# Altium integrated library TI_Logic_Specialty_Logic.IntLib: 2504 symbols (part 62 of 81)
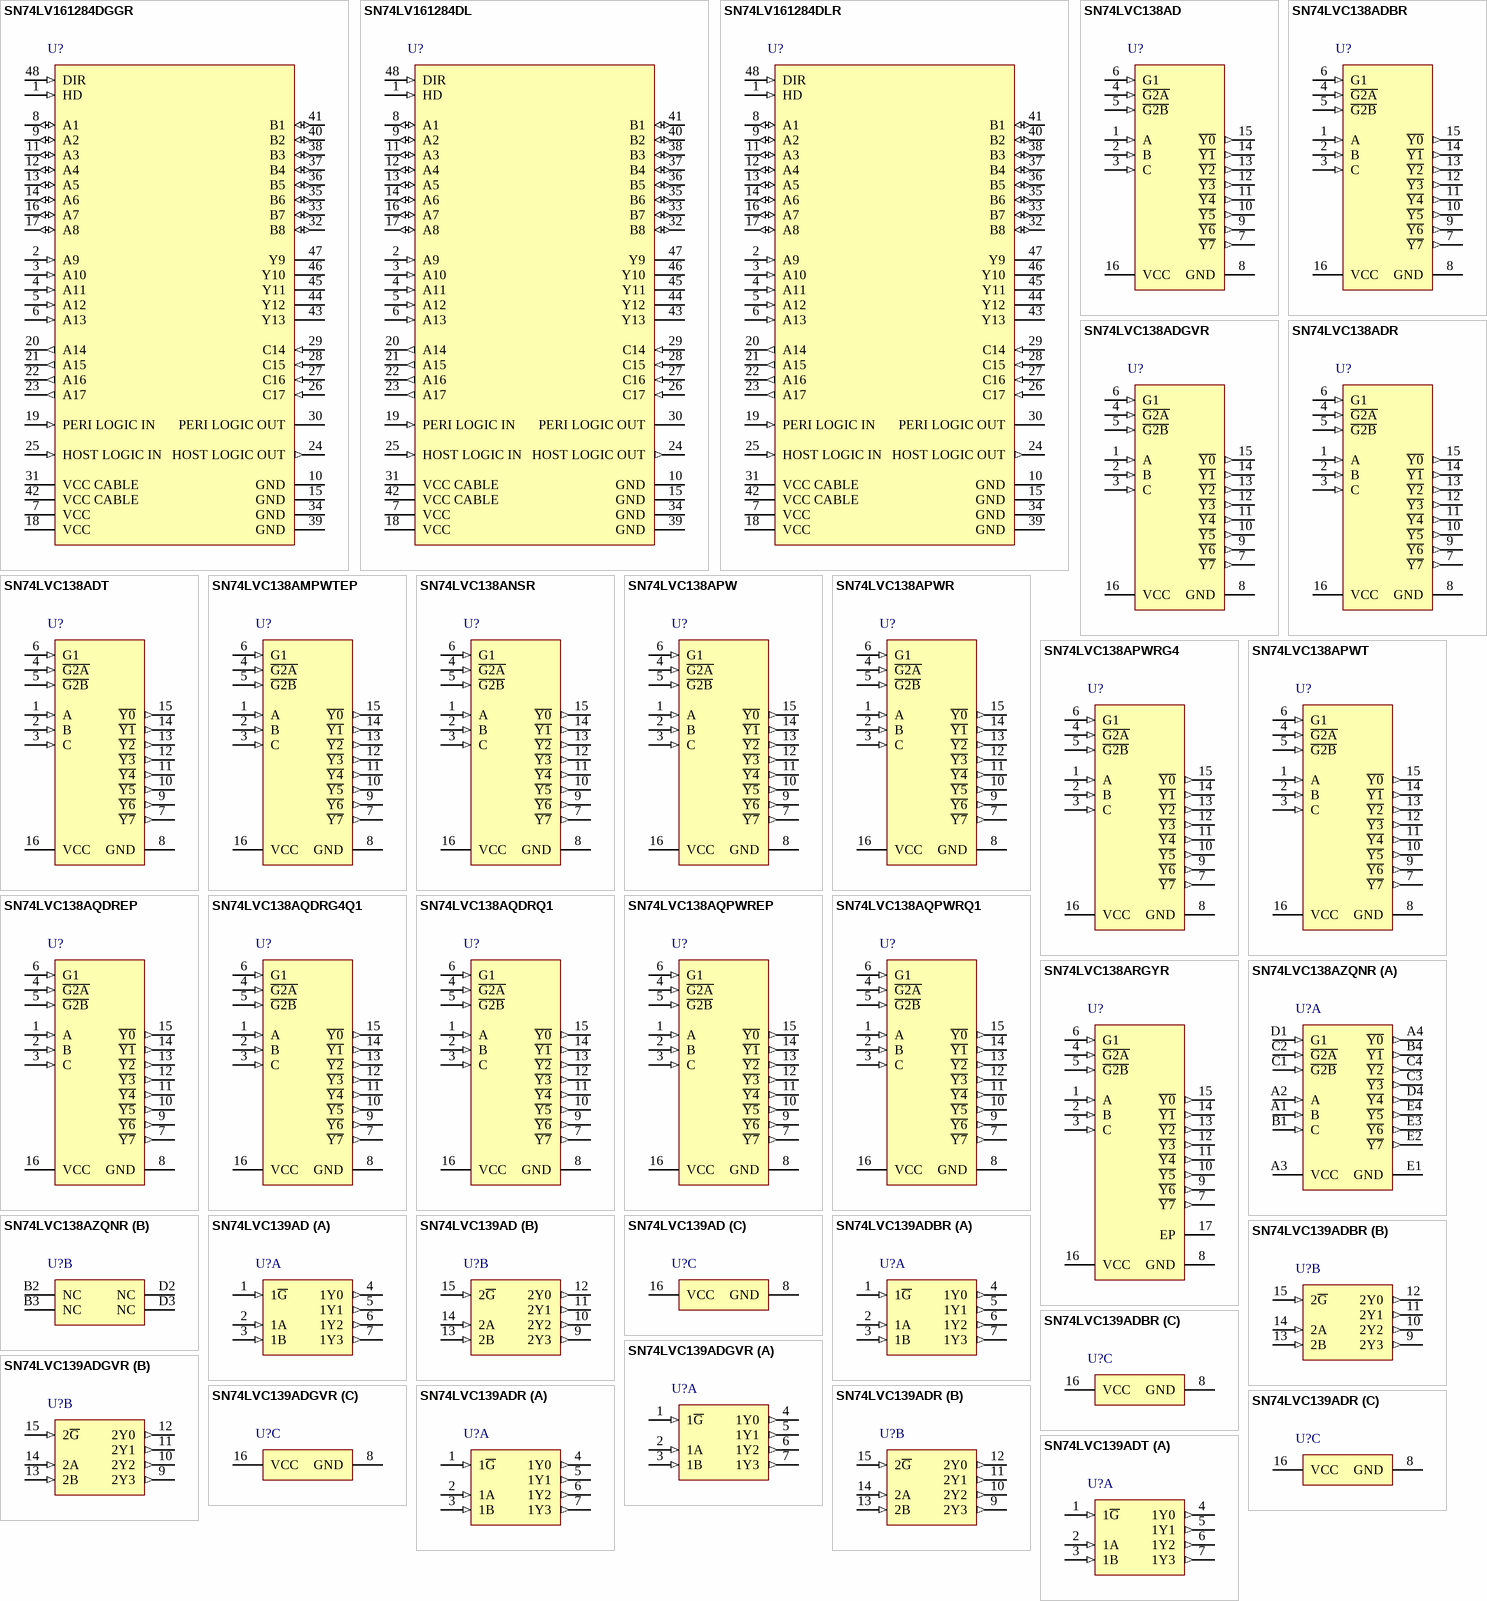
[diagram p165: symbols SN74LV161284DGGR to SN74LVC139ADT]

## SN74LVC138AD
designator U?
3-Line To 8-Line decoder/Demultiplexer, D0016A, TUBE; Generic Part Number: SN74LVC138A; Manufacturer: Texas Instruments; PartNumber: SN74LVC138AD; VCC(Min)(V): 1.65; VCC(Max)(V): 3.6; Output Type: CMOS; ICC @ Nom Voltage(Max)(mA): 0.01; Input Type: TLL/CMOS; Bits(#): 8; F @ Nom Voltage(Max)(Mhz): 100; Configuration: 3：8; Channels(#): 1; Rating: Catalog; Technology Family: LVC; Voltage(Nom)(V): 1.8,2.5,2.7,3.3; Schmitt Trigger: No; Output Drive (IOL/IOH)(Max)(mA): 24/-24; tpd @ Nom Voltage(Max)(ns): 22,9.9,7.9,6.7; DatasheetVersion: SCAS291V; PackageReference: D0016A; Supplier 1: Mouser; Supplier Part Number 1: 595-SN74LVC138AD; Supplier 2: Digi-Key; Supplier Part Number 2: 296-8459-5-ND; Function: Decoder/Demultiplexer; Operating Temperature Range(C): -40 to 85; Type: Standard; Code_JEDEC: MS-012 variation AC; ComponentLink1Description: Manufacturer URL; ComponentLink1URL: http://www.ti.com/; ComponentLink2Description: Datasheet; ComponentLink2URL: http://www.ti.com/lit/ds/symlink/sn74lvc138a.pdf; ComponentLink3Description: Package Specification; ComponentLink3URL: http://www.ti.com/lit/ml/mpds178g/mpds178g.pdf
footprint D0016A_N (SOIC, 16-Leads, Body 10x4mm, Pitch 1.27mm, IPC Medium Density)
footprint D0016A_M (SOIC, 16-Leads, Body 10x4mm, Pitch 1.27mm, IPC Low Density)
footprint D0016A_L (SOIC, 16-Leads, Body 10x4mm, Pitch 1.27mm, IPC High Density)
pins: 1 A (in), 2 B (in), 3 C (in), 4 ~{G2A} (in), 5 ~{G2B} (in), 6 G1 (in), 7 ~{Y7} (out), 8 GND (power), 9 ~{Y6} (out), 10 ~{Y5} (out), 11 ~{Y4} (out), 12 ~{Y3} (out), 13 ~{Y2} (out), 14 ~{Y1} (out), 15 ~{Y0} (out), 16 VCC (power)

## SN74LVC138ADBR
designator U?
3-Line To 8-Line decoder/Demultiplexer, DB0016A, LARGE T&R; Generic Part Number: SN74LVC138A; Manufacturer: Texas Instruments; PartNumber: SN74LVC138ADBR; VCC(Min)(V): 1.65; VCC(Max)(V): 3.6; Output Type: CMOS; ICC @ Nom Voltage(Max)(mA): 0.01; Input Type: TLL/CMOS; Bits(#): 8; F @ Nom Voltage(Max)(Mhz): 100; Configuration: 3：8; Channels(#): 1; Rating: Catalog; Technology Family: LVC; Voltage(Nom)(V): 1.8,2.5,2.7,3.3; Schmitt Trigger: No; Output Drive (IOL/IOH)(Max)(mA): 24/-24; tpd @ Nom Voltage(Max)(ns): 22,9.9,7.9,6.7; DatasheetVersion: SCAS291V; PackageReference: DB0016A; Supplier 1: Mouser; Supplier Part Number 1: 595-SN74LVC138ADBR; Supplier 2: Digi-Key; Supplier Part Number 2: 296-8460-2-ND; Supplier 3: Digi-Key; Supplier Part Number 3: 296-8460-1-ND; Supplier 4: Digi-Key; Supplier Part Number 4: 296-8460-6-ND; Function: Decoder/Demultiplexer; Operating Temperature Range(C): -40 to 85; Type: Standard; Code_JEDEC: MO-150; ComponentLink1Description: Manufacturer URL; ComponentLink1URL: http://www.ti.com/; ComponentLink2Description: Datasheet; ComponentLink2URL: http://www.ti.com/lit/ds/symlink/sn74lvc138a.pdf; ComponentLink3Description: Package Specification; ComponentLink3URL: http://www.ti.com/lit/ml/mpds507/mpds507.pdf
footprint DB0016A_N (SOP, 16-Leads, Body 5.6x6.5mm, Pitch 0.65mm, IPC Medium Density)
footprint DB0016A_M (SOP, 16-Leads, Body 5.6x6.5mm, Pitch 0.65mm, IPC Low Density)
footprint DB0016A_L (SOP, 16-Leads, Body 5.6x6.5mm, Pitch 0.65mm, IPC High Density)
pins: 1 A (in), 2 B (in), 3 C (in), 4 ~{G2A} (in), 5 ~{G2B} (in), 6 G1 (in), 7 ~{Y7} (out), 8 GND (power), 9 ~{Y6} (out), 10 ~{Y5} (out), 11 ~{Y4} (out), 12 ~{Y3} (out), 13 ~{Y2} (out), 14 ~{Y1} (out), 15 ~{Y0} (out), 16 VCC (power)

## SN74LVC138ADGVR
designator U?
3-Line To 8-Line decoder/Demultiplexer, DGV0016A, LARGE T&R; Generic Part Number: SN74LVC138A; Manufacturer: Texas Instruments; PartNumber: SN74LVC138ADGVR; VCC(Min)(V): 1.65; VCC(Max)(V): 3.6; Output Type: CMOS; ICC @ Nom Voltage(Max)(mA): 0.01; Input Type: TLL/CMOS; Bits(#): 8; F @ Nom Voltage(Max)(Mhz): 100; Configuration: 3：8; Channels(#): 1; Rating: Catalog; Technology Family: LVC; Voltage(Nom)(V): 1.8,2.5,2.7,3.3; Schmitt Trigger: No; Output Drive (IOL/IOH)(Max)(mA): 24/-24; tpd @ Nom Voltage(Max)(ns): 22,9.9,7.9,6.7; DatasheetVersion: SCAS291V; PackageReference: DGV0016A; Supplier 1: Mouser; Supplier Part Number 1: 595-SN74LVC138ADGVR; Supplier 2: Digi-Key; Supplier Part Number 2: 296-13235-2-ND; Supplier 3: Digi-Key; Supplier Part Number 3: 296-13235-1-ND; Supplier 4: Digi-Key; Supplier Part Number 4: 296-13235-6-ND; Function: Decoder/Demultiplexer; Operating Temperature Range(C): -40 to 85; Type: Standard; Code_JEDEC: MO-194; ComponentLink1Description: Manufacturer URL; ComponentLink1URL: http://www.ti.com/; ComponentLink2Description: Datasheet; ComponentLink2URL: http://www.ti.com/lit/ds/symlink/sn74lvc138a.pdf; ComponentLink3Description: Package Specification; ComponentLink3URL: http://www.ti.com/lit/ml/mpds006c/mpds006c.pdf
footprint DGV0016A_N (SOP, 16-Leads, Body 4.5x3.7mm, Pitch 0.4mm, IPC Medium Density)
footprint DGV0016A_M (SOP, 16-Leads, Body 4.5x3.7mm, Pitch 0.4mm, IPC Low Density)
footprint DGV0016A_L (SOP, 16-Leads, Body 4.5x3.7mm, Pitch 0.4mm, IPC High Density)
pins: 1 A (in), 2 B (in), 3 C (in), 4 ~{G2A} (in), 5 ~{G2B} (in), 6 G1 (in), 7 ~{Y7} (out), 8 GND (power), 9 ~{Y6} (out), 10 ~{Y5} (out), 11 ~{Y4} (out), 12 ~{Y3} (out), 13 ~{Y2} (out), 14 ~{Y1} (out), 15 ~{Y0} (out), 16 VCC (power)

## SN74LVC138ADR
designator U?
3-Line To 8-Line decoder/Demultiplexer, D0016A, LARGE T&R; Generic Part Number: SN74LVC138A; Manufacturer: Texas Instruments; PartNumber: SN74LVC138ADR; VCC(Min)(V): 1.65; VCC(Max)(V): 3.6; Output Type: CMOS; ICC @ Nom Voltage(Max)(mA): 0.01; Input Type: TLL/CMOS; Bits(#): 8; F @ Nom Voltage(Max)(Mhz): 100; Configuration: 3：8; Channels(#): 1; Rating: Catalog; Technology Family: LVC; Voltage(Nom)(V): 1.8,2.5,2.7,3.3; Schmitt Trigger: No; Output Drive (IOL/IOH)(Max)(mA): 24/-24; tpd @ Nom Voltage(Max)(ns): 22,9.9,7.9,6.7; DatasheetVersion: SCAS291V; PackageReference: D0016A; Supplier 1: Mouser; Supplier Part Number 1: 595-SN74LVC138ADR; Supplier 2: Digi-Key; Supplier Part Number 2: 296-14906-2-ND; Supplier 3: Digi-Key; Supplier Part Number 3: 296-14906-1-ND; Supplier 4: Digi-Key; Supplier Part Number 4: 296-14906-6-ND; Function: Decoder/Demultiplexer; Operating Temperature Range(C): -40 to 85; Type: Standard; Code_JEDEC: MS-012 variation AC; ComponentLink1Description: Manufacturer URL; ComponentLink1URL: http://www.ti.com/; ComponentLink2Description: Datasheet; ComponentLink2URL: http://www.ti.com/lit/ds/symlink/sn74lvc138a.pdf; ComponentLink3Description: Package Specification; ComponentLink3URL: http://www.ti.com/lit/ml/mpds178g/mpds178g.pdf
footprint D0016A_N (SOIC, 16-Leads, Body 10x4mm, Pitch 1.27mm, IPC Medium Density)
footprint D0016A_M (SOIC, 16-Leads, Body 10x4mm, Pitch 1.27mm, IPC Low Density)
footprint D0016A_L (SOIC, 16-Leads, Body 10x4mm, Pitch 1.27mm, IPC High Density)
pins: 1 A (in), 2 B (in), 3 C (in), 4 ~{G2A} (in), 5 ~{G2B} (in), 6 G1 (in), 7 ~{Y7} (out), 8 GND (power), 9 ~{Y6} (out), 10 ~{Y5} (out), 11 ~{Y4} (out), 12 ~{Y3} (out), 13 ~{Y2} (out), 14 ~{Y1} (out), 15 ~{Y0} (out), 16 VCC (power)

## SN74LVC138ADT
designator U?
3-Line To 8-Line decoder/Demultiplexer, D0016A, SMALL T&R; Generic Part Number: SN74LVC138A; Manufacturer: Texas Instruments; PartNumber: SN74LVC138ADT; VCC(Min)(V): 1.65; VCC(Max)(V): 3.6; Output Type: CMOS; ICC @ Nom Voltage(Max)(mA): 0.01; Input Type: TLL/CMOS; Bits(#): 8; F @ Nom Voltage(Max)(Mhz): 100; Configuration: 3：8; Channels(#): 1; Rating: Catalog; Technology Family: LVC; Voltage(Nom)(V): 1.8,2.5,2.7,3.3; Schmitt Trigger: No; Output Drive (IOL/IOH)(Max)(mA): 24/-24; tpd @ Nom Voltage(Max)(ns): 22,9.9,7.9,6.7; DatasheetVersion: SCAS291V; PackageReference: D0016A; Supplier 1: Mouser; Supplier Part Number 1: 595-SN74LVC138ADT; Supplier 2: Digi-Key; Supplier Part Number 2: 296-31902-2-ND; Supplier 3: Digi-Key; Supplier Part Number 3: 296-31902-1-ND; Supplier 4: Digi-Key; Supplier Part Number 4: 296-31902-6-ND; Function: Decoder/Demultiplexer; Operating Temperature Range(C): -40 to 85; Type: Standard; Code_JEDEC: MS-012 variation AC; ComponentLink1Description: Manufacturer URL; ComponentLink1URL: http://www.ti.com/; ComponentLink2Description: Datasheet; ComponentLink2URL: http://www.ti.com/lit/ds/symlink/sn74lvc138a.pdf; ComponentLink3Description: Package Specification; ComponentLink3URL: http://www.ti.com/lit/ml/mpds178g/mpds178g.pdf
footprint D0016A_N (SOIC, 16-Leads, Body 10x4mm, Pitch 1.27mm, IPC Medium Density)
footprint D0016A_M (SOIC, 16-Leads, Body 10x4mm, Pitch 1.27mm, IPC Low Density)
footprint D0016A_L (SOIC, 16-Leads, Body 10x4mm, Pitch 1.27mm, IPC High Density)
pins: 1 A (in), 2 B (in), 3 C (in), 4 ~{G2A} (in), 5 ~{G2B} (in), 6 G1 (in), 7 ~{Y7} (out), 8 GND (power), 9 ~{Y6} (out), 10 ~{Y5} (out), 11 ~{Y4} (out), 12 ~{Y3} (out), 13 ~{Y2} (out), 14 ~{Y1} (out), 15 ~{Y0} (out), 16 VCC (power)

## SN74LVC138AMPWTEP
designator U?
Enhanced Product 3-Line To 8-Line Decoder/Demultiplexer, PW0016A, SMALL T&R; Generic Part Number: SN74LVC138A-EP; Manufacturer: Texas Instruments; PartNumber: SN74LVC138AMPWTEP; VCC(Min)(V): 2; VCC(Max)(V): 3.6; ICC @ Nom Voltage(Max)(mA): 0.01; F @ Nom Voltage(Max)(Mhz): 100; Channels(#): 1; Rating: HiRel Enhanced Product; Technology Family: LVC; Voltage(Nom)(V): 2.7,3.3; Schmitt Trigger: No; Output Drive (IOL/IOH)(Max)(mA): 24/-24; tpd @ Nom Voltage(Max)(ns): 7.9,6.7; DatasheetVersion: SCAS734D; PackageReference: PW0016A; Supplier 1: Mouser; Supplier Part Number 1: 595-N74LVC138AMPWTEP; Supplier 2: Digi-Key; Supplier Part Number 2: 296-24670-2-ND; Supplier 3: Digi-Key; Supplier Part Number 3: 296-24670-1-ND; Supplier 4: Digi-Key; Supplier Part Number 4: 296-24670-6-ND; Operating Temperature Range(C): -40 to 125,-55 to 125; Type: Standard; Code_JEDEC: MO-153; ComponentLink1Description: Manufacturer URL; ComponentLink1URL: http://www.ti.com/; ComponentLink2Description: Datasheet; ComponentLink2URL: http://www.ti.com/lit/ds/symlink/sn74lvc138a-ep.pdf; ComponentLink3Description: Package Specification; ComponentLink3URL: http://www.ti.com/lit/ml/mpds361/mpds361.pdf
footprint PW0016A_N (SOP, 16-Leads, Body 5.1x4.5mm, Pitch 0.65mm, IPC Medium Density)
footprint PW0016A_M (SOP, 16-Leads, Body 5.1x4.5mm, Pitch 0.65mm, IPC Low Density)
footprint PW0016A_L (SOP, 16-Leads, Body 5.1x4.5mm, Pitch 0.65mm, IPC High Density)
pins: 1 A (in), 2 B (in), 3 C (in), 4 ~{G2A} (in), 5 ~{G2B} (in), 6 G1 (in), 7 ~{Y7} (out), 8 GND (power), 9 ~{Y6} (out), 10 ~{Y5} (out), 11 ~{Y4} (out), 12 ~{Y3} (out), 13 ~{Y2} (out), 14 ~{Y1} (out), 15 ~{Y0} (out), 16 VCC (power)

## SN74LVC138ANSR
designator U?
3-Line To 8-Line decoder/Demultiplexer, NS0016A, LARGE T&R; Generic Part Number: SN74LVC138A; Manufacturer: Texas Instruments; PartNumber: SN74LVC138ANSR; VCC(Min)(V): 1.65; VCC(Max)(V): 3.6; Output Type: CMOS; ICC @ Nom Voltage(Max)(mA): 0.01; Input Type: TLL/CMOS; Bits(#): 8; F @ Nom Voltage(Max)(Mhz): 100; Configuration: 3：8; Channels(#): 1; Rating: Catalog; Technology Family: LVC; Voltage(Nom)(V): 1.8,2.5,2.7,3.3; Schmitt Trigger: No; Output Drive (IOL/IOH)(Max)(mA): 24/-24; tpd @ Nom Voltage(Max)(ns): 22,9.9,7.9,6.7; DatasheetVersion: SCAS291V; PackageReference: NS0016A; Supplier 1: Mouser; Supplier Part Number 1: 595-SN74LVC138ANSR; Supplier 2: Digi-Key; Supplier Part Number 2: 296-31903-2-ND; Supplier 3: Digi-Key; Supplier Part Number 3: 296-31903-1-ND; Supplier 4: Digi-Key; Supplier Part Number 4: 296-31903-6-ND; Function: Decoder/Demultiplexer; Operating Temperature Range(C): -40 to 85; Type: Standard; ComponentLink1Description: Manufacturer URL; ComponentLink1URL: http://www.ti.com/; ComponentLink2Description: Datasheet; ComponentLink2URL: http://www.ti.com/lit/ds/symlink/sn74lvc138a.pdf; ComponentLink3Description: Package Specification; ComponentLink3URL: http://www.ti.com/lit/ml/msop002a/msop002a.pdf
footprint NS0016A_N (SOIC,16-Leads,Body 10.5x5.6mm,Pitch 1.27mm,IPC Medium Density)
footprint NS0016A_M (SOIC,16-Leads,Body 10.5x5.6mm,Pitch 1.27mm,IPC Low Density)
footprint NS0016A_L (SOIC,16-Leads,Body 10.5x5.6mm,Pitch 1.27mm,IPC High Density)
pins: 1 A (in), 2 B (in), 3 C (in), 4 ~{G2A} (in), 5 ~{G2B} (in), 6 G1 (in), 7 ~{Y7} (out), 8 GND (power), 9 ~{Y6} (out), 10 ~{Y5} (out), 11 ~{Y4} (out), 12 ~{Y3} (out), 13 ~{Y2} (out), 14 ~{Y1} (out), 15 ~{Y0} (out), 16 VCC (power)

## SN74LVC138APW
designator U?
3-Line To 8-Line decoder/Demultiplexer, PW0016A, TUBE; Generic Part Number: SN74LVC138A; Manufacturer: Texas Instruments; PartNumber: SN74LVC138APW; VCC(Min)(V): 1.65; VCC(Max)(V): 3.6; Output Type: CMOS; ICC @ Nom Voltage(Max)(mA): 0.01; Input Type: TLL/CMOS; Bits(#): 8; F @ Nom Voltage(Max)(Mhz): 100; Configuration: 3：8; Channels(#): 1; Rating: Catalog; Technology Family: LVC; Voltage(Nom)(V): 1.8,2.5,2.7,3.3; Schmitt Trigger: No; Output Drive (IOL/IOH)(Max)(mA): 24/-24; tpd @ Nom Voltage(Max)(ns): 22,9.9,7.9,6.7; DatasheetVersion: SCAS291V; PackageReference: PW0016A; Supplier 1: Mouser; Supplier Part Number 1: 595-SN74LVC138APW; Supplier 2: Digi-Key; Supplier Part Number 2: 296-26580-5-ND; Function: Decoder/Demultiplexer; Operating Temperature Range(C): -40 to 85; Type: Standard; Code_JEDEC: MO-153; ComponentLink1Description: Manufacturer URL; ComponentLink1URL: http://www.ti.com/; ComponentLink2Description: Datasheet; ComponentLink2URL: http://www.ti.com/lit/ds/symlink/sn74lvc138a.pdf; ComponentLink3Description: Package Specification; ComponentLink3URL: http://www.ti.com/lit/ml/mpds361/mpds361.pdf
footprint PW0016A_N (SOP, 16-Leads, Body 5.1x4.5mm, Pitch 0.65mm, IPC Medium Density)
footprint PW0016A_M (SOP, 16-Leads, Body 5.1x4.5mm, Pitch 0.65mm, IPC Low Density)
footprint PW0016A_L (SOP, 16-Leads, Body 5.1x4.5mm, Pitch 0.65mm, IPC High Density)
pins: 1 A (in), 2 B (in), 3 C (in), 4 ~{G2A} (in), 5 ~{G2B} (in), 6 G1 (in), 7 ~{Y7} (out), 8 GND (power), 9 ~{Y6} (out), 10 ~{Y5} (out), 11 ~{Y4} (out), 12 ~{Y3} (out), 13 ~{Y2} (out), 14 ~{Y1} (out), 15 ~{Y0} (out), 16 VCC (power)

## SN74LVC138APWR
designator U?
3-Line To 8-Line decoder/Demultiplexer, PW0016A, LARGE T&R; Generic Part Number: SN74LVC138A; Manufacturer: Texas Instruments; PartNumber: SN74LVC138APWR; VCC(Min)(V): 1.65; VCC(Max)(V): 3.6; Output Type: CMOS; ICC @ Nom Voltage(Max)(mA): 0.01; Input Type: TLL/CMOS; Bits(#): 8; F @ Nom Voltage(Max)(Mhz): 100; Configuration: 3：8; Channels(#): 1; Rating: Catalog; Technology Family: LVC; Voltage(Nom)(V): 1.8,2.5,2.7,3.3; Schmitt Trigger: No; Output Drive (IOL/IOH)(Max)(mA): 24/-24; tpd @ Nom Voltage(Max)(ns): 22,9.9,7.9,6.7; DatasheetVersion: SCAS291V; PackageReference: PW0016A; Supplier 1: Mouser; Supplier Part Number 1: 595-SN74LVC138APWR; Supplier 2: Digi-Key; Supplier Part Number 2: 296-1223-2-ND; Supplier 3: Digi-Key; Supplier Part Number 3: 296-1223-1-ND; Supplier 4: Digi-Key; Supplier Part Number 4: 296-1223-6-ND; Function: Decoder/Demultiplexer; Operating Temperature Range(C): -40 to 85; Type: Standard; Code_JEDEC: MO-153; ComponentLink1Description: Manufacturer URL; ComponentLink1URL: http://www.ti.com/; ComponentLink2Description: Datasheet; ComponentLink2URL: http://www.ti.com/lit/ds/symlink/sn74lvc138a.pdf; ComponentLink3Description: Package Specification; ComponentLink3URL: http://www.ti.com/lit/ml/mpds361/mpds361.pdf
footprint PW0016A_N (SOP, 16-Leads, Body 5.1x4.5mm, Pitch 0.65mm, IPC Medium Density)
footprint PW0016A_M (SOP, 16-Leads, Body 5.1x4.5mm, Pitch 0.65mm, IPC Low Density)
footprint PW0016A_L (SOP, 16-Leads, Body 5.1x4.5mm, Pitch 0.65mm, IPC High Density)
pins: 1 A (in), 2 B (in), 3 C (in), 4 ~{G2A} (in), 5 ~{G2B} (in), 6 G1 (in), 7 ~{Y7} (out), 8 GND (power), 9 ~{Y6} (out), 10 ~{Y5} (out), 11 ~{Y4} (out), 12 ~{Y3} (out), 13 ~{Y2} (out), 14 ~{Y1} (out), 15 ~{Y0} (out), 16 VCC (power)

## SN74LVC138APWRG4
designator U?
3-Line To 8-Line decoder/Demultiplexer, PW0016A, LARGE T&R; Generic Part Number: SN74LVC138A; Manufacturer: Texas Instruments; PartNumber: SN74LVC138APWRG4; VCC(Min)(V): 1.65; VCC(Max)(V): 3.6; Output Type: CMOS; ICC @ Nom Voltage(Max)(mA): 0.01; Input Type: TLL/CMOS; Bits(#): 8; F @ Nom Voltage(Max)(Mhz): 100; Configuration: 3：8; Channels(#): 1; Rating: Catalog; Technology Family: LVC; Voltage(Nom)(V): 1.8,2.5,2.7,3.3; Schmitt Trigger: No; Output Drive (IOL/IOH)(Max)(mA): 24/-24; tpd @ Nom Voltage(Max)(ns): 22,9.9,7.9,6.7; DatasheetVersion: SCAS291V; PackageReference: PW0016A; Supplier 1: Mouser; Supplier Part Number 1: 595-SN74LVC138APWRG4; Supplier 2: Digi-Key; Supplier Part Number 2: SN74LVC138APWRG4-ND; Function: Decoder/Demultiplexer; Operating Temperature Range(C): -40 to 85; Type: Standard; Code_JEDEC: MO-153; ComponentLink1Description: Manufacturer URL; ComponentLink1URL: http://www.ti.com/; ComponentLink2Description: Datasheet; ComponentLink2URL: http://www.ti.com/lit/ds/symlink/sn74lvc138a.pdf; ComponentLink3Description: Package Specification; ComponentLink3URL: http://www.ti.com/lit/ml/mpds361/mpds361.pdf
footprint PW0016A_N (SOP, 16-Leads, Body 5.1x4.5mm, Pitch 0.65mm, IPC Medium Density)
footprint PW0016A_M (SOP, 16-Leads, Body 5.1x4.5mm, Pitch 0.65mm, IPC Low Density)
footprint PW0016A_L (SOP, 16-Leads, Body 5.1x4.5mm, Pitch 0.65mm, IPC High Density)
pins: 1 A (in), 2 B (in), 3 C (in), 4 ~{G2A} (in), 5 ~{G2B} (in), 6 G1 (in), 7 ~{Y7} (out), 8 GND (power), 9 ~{Y6} (out), 10 ~{Y5} (out), 11 ~{Y4} (out), 12 ~{Y3} (out), 13 ~{Y2} (out), 14 ~{Y1} (out), 15 ~{Y0} (out), 16 VCC (power)

## SN74LVC138APWT
designator U?
3-Line To 8-Line decoder/Demultiplexer, PW0016A, SMALL T&R; Generic Part Number: SN74LVC138A; Manufacturer: Texas Instruments; PartNumber: SN74LVC138APWT; VCC(Min)(V): 1.65; VCC(Max)(V): 3.6; Output Type: CMOS; ICC @ Nom Voltage(Max)(mA): 0.01; Input Type: TLL/CMOS; Bits(#): 8; F @ Nom Voltage(Max)(Mhz): 100; Configuration: 3：8; Channels(#): 1; Rating: Catalog; Technology Family: LVC; Voltage(Nom)(V): 1.8,2.5,2.7,3.3; Schmitt Trigger: No; Output Drive (IOL/IOH)(Max)(mA): 24/-24; tpd @ Nom Voltage(Max)(ns): 22,9.9,7.9,6.7; DatasheetVersion: SCAS291V; PackageReference: PW0016A; Supplier 1: Mouser; Supplier Part Number 1: 595-SN74LVC138APWT; Supplier 2: Digi-Key; Supplier Part Number 2: 296-31904-2-ND; Supplier 3: Digi-Key; Supplier Part Number 3: 296-31904-1-ND; Supplier 4: Digi-Key; Supplier Part Number 4: 296-31904-6-ND; Function: Decoder/Demultiplexer; Operating Temperature Range(C): -40 to 85; Type: Standard; Code_JEDEC: MO-153; ComponentLink1Description: Manufacturer URL; ComponentLink1URL: http://www.ti.com/; ComponentLink2Description: Datasheet; ComponentLink2URL: http://www.ti.com/lit/ds/symlink/sn74lvc138a.pdf; ComponentLink3Description: Package Specification; ComponentLink3URL: http://www.ti.com/lit/ml/mpds361/mpds361.pdf
footprint PW0016A_N (SOP, 16-Leads, Body 5.1x4.5mm, Pitch 0.65mm, IPC Medium Density)
footprint PW0016A_M (SOP, 16-Leads, Body 5.1x4.5mm, Pitch 0.65mm, IPC Low Density)
footprint PW0016A_L (SOP, 16-Leads, Body 5.1x4.5mm, Pitch 0.65mm, IPC High Density)
pins: 1 A (in), 2 B (in), 3 C (in), 4 ~{G2A} (in), 5 ~{G2B} (in), 6 G1 (in), 7 ~{Y7} (out), 8 GND (power), 9 ~{Y6} (out), 10 ~{Y5} (out), 11 ~{Y4} (out), 12 ~{Y3} (out), 13 ~{Y2} (out), 14 ~{Y1} (out), 15 ~{Y0} (out), 16 VCC (power)

## SN74LVC138AQDREP
designator U?
Enhanced Product 3-Line To 8-Line Decoder/Demultiplexer, D0016A, LARGE T&R; Generic Part Number: SN74LVC138A-EP; Manufacturer: Texas Instruments; PartNumber: SN74LVC138AQDREP; VCC(Min)(V): 2; VCC(Max)(V): 3.6; ICC @ Nom Voltage(Max)(mA): 0.01; F @ Nom Voltage(Max)(Mhz): 100; Channels(#): 1; Rating: HiRel Enhanced Product; Technology Family: LVC; Voltage(Nom)(V): 2.7,3.3; Schmitt Trigger: No; Output Drive (IOL/IOH)(Max)(mA): 24/-24; tpd @ Nom Voltage(Max)(ns): 7.9,6.7; DatasheetVersion: SCAS734D; PackageReference: D0016A; Supplier 1: Mouser; Supplier Part Number 1: 595-SN74LVC138AQDREP; Supplier 2: Digi-Key; Supplier Part Number 2: 296-22334-2-ND; Supplier 3: Digi-Key; Supplier Part Number 3: 296-22334-1-ND; Supplier 4: Digi-Key; Supplier Part Number 4: 296-22334-6-ND; Operating Temperature Range(C): -40 to 125,-55 to 125; Type: Standard; Code_JEDEC: MS-012 variation AC; ComponentLink1Description: Manufacturer URL; ComponentLink1URL: http://www.ti.com/; ComponentLink2Description: Datasheet; ComponentLink2URL: http://www.ti.com/lit/ds/symlink/sn74lvc138a-ep.pdf; ComponentLink3Description: Package Specification; ComponentLink3URL: http://www.ti.com/lit/ml/mpds178g/mpds178g.pdf
footprint D0016A_N (SOIC, 16-Leads, Body 10x4mm, Pitch 1.27mm, IPC Medium Density)
footprint D0016A_M (SOIC, 16-Leads, Body 10x4mm, Pitch 1.27mm, IPC Low Density)
footprint D0016A_L (SOIC, 16-Leads, Body 10x4mm, Pitch 1.27mm, IPC High Density)
pins: 1 A (in), 2 B (in), 3 C (in), 4 ~{G2A} (in), 5 ~{G2B} (in), 6 G1 (in), 7 ~{Y7} (out), 8 GND (power), 9 ~{Y6} (out), 10 ~{Y5} (out), 11 ~{Y4} (out), 12 ~{Y3} (out), 13 ~{Y2} (out), 14 ~{Y1} (out), 15 ~{Y0} (out), 16 VCC (power)

## SN74LVC138AQDRG4Q1
designator U?
Automotive Catalog 3-Line To 8-Line decoder/Demultiplexer, D0016A, LARGE T&R; Generic Part Number: SN74LVC138A-Q1; Manufacturer: Texas Instruments; PartNumber: SN74LVC138AQDRG4Q1; VCC(Min)(V): 2; VCC(Max)(V): 3.6; Output Type: CMOS; ICC @ Nom Voltage(Max)(mA): 0.01; Input Type: TLL/CMOS; Bits(#): 8; F @ Nom Voltage(Max)(Mhz): 100; Channels(#): 1; Technology Family: LVC; Voltage(Nom)(V): 2.7,3.3; Schmitt Trigger: No; Output Drive (IOL/IOH)(Max)(mA): 24/-24; tpd @ Nom Voltage(Max)(ns): 7.9,6.7; DatasheetVersion: SCAS708B; PackageReference: D0016A; Supplier 1: Mouser; Supplier Part Number 1: 595-74LVC138AQDRG4Q1; Supplier 2: Digi-Key; Supplier Part Number 2: 296-24837-2-ND; Supplier 3: Digi-Key; Supplier Part Number 3: 296-24837-1-ND; Supplier 4: Digi-Key; Supplier Part Number 4: 296-24837-6-ND; Operating Temperature Range(C): -40 to 125; Type: Standard; Rating: Automotive; Code_JEDEC: MS-012 variation AC; ComponentLink1Description: Manufacturer URL; ComponentLink1URL: http://www.ti.com/; ComponentLink2Description: Datasheet; ComponentLink2URL: http://www.ti.com/lit/ds/symlink/sn74lvc138a-q1.pdf; ComponentLink3Description: Package Specification; ComponentLink3URL: http://www.ti.com/lit/ml/mpds178g/mpds178g.pdf
footprint D0016A_N (SOIC, 16-Leads, Body 10x4mm, Pitch 1.27mm, IPC Medium Density)
footprint D0016A_M (SOIC, 16-Leads, Body 10x4mm, Pitch 1.27mm, IPC Low Density)
footprint D0016A_L (SOIC, 16-Leads, Body 10x4mm, Pitch 1.27mm, IPC High Density)
pins: 1 A (in), 2 B (in), 3 C (in), 4 ~{G2A} (in), 5 ~{G2B} (in), 6 G1 (in), 7 ~{Y7} (out), 8 GND (power), 9 ~{Y6} (out), 10 ~{Y5} (out), 11 ~{Y4} (out), 12 ~{Y3} (out), 13 ~{Y2} (out), 14 ~{Y1} (out), 15 ~{Y0} (out), 16 VCC (power)

## SN74LVC138AQDRQ1
designator U?
Automotive Catalog 3-Line To 8-Line decoder/Demultiplexer, D0016A, LARGE T&R; Generic Part Number: SN74LVC138A-Q1; Manufacturer: Texas Instruments; PartNumber: SN74LVC138AQDRQ1; VCC(Min)(V): 2; VCC(Max)(V): 3.6; Output Type: CMOS; ICC @ Nom Voltage(Max)(mA): 0.01; Input Type: TLL/CMOS; Bits(#): 8; F @ Nom Voltage(Max)(Mhz): 100; Channels(#): 1; Technology Family: LVC; Voltage(Nom)(V): 2.7,3.3; Schmitt Trigger: No; Output Drive (IOL/IOH)(Max)(mA): 24/-24; tpd @ Nom Voltage(Max)(ns): 7.9,6.7; DatasheetVersion: SCAS708B; PackageReference: D0016A; Supplier 1: Mouser; Supplier Part Number 1: 595-SN74LVC138AQDRQ1; Supplier 2: Digi-Key; Supplier Part Number 2: 296-19474-2-ND; Supplier 3: Digi-Key; Supplier Part Number 3: 296-19474-1-ND; Supplier 4: Digi-Key; Supplier Part Number 4: 296-19474-6-ND; Operating Temperature Range(C): -40 to 125; Type: Standard; Rating: Automotive; Code_JEDEC: MS-012 variation AC; ComponentLink1Description: Manufacturer URL; ComponentLink1URL: http://www.ti.com/; ComponentLink2Description: Datasheet; ComponentLink2URL: http://www.ti.com/lit/ds/symlink/sn74lvc138a-q1.pdf; ComponentLink3Description: Package Specification; ComponentLink3URL: http://www.ti.com/lit/ml/mpds178g/mpds178g.pdf
footprint D0016A_N (SOIC, 16-Leads, Body 10x4mm, Pitch 1.27mm, IPC Medium Density)
footprint D0016A_M (SOIC, 16-Leads, Body 10x4mm, Pitch 1.27mm, IPC Low Density)
footprint D0016A_L (SOIC, 16-Leads, Body 10x4mm, Pitch 1.27mm, IPC High Density)
pins: 1 A (in), 2 B (in), 3 C (in), 4 ~{G2A} (in), 5 ~{G2B} (in), 6 G1 (in), 7 ~{Y7} (out), 8 GND (power), 9 ~{Y6} (out), 10 ~{Y5} (out), 11 ~{Y4} (out), 12 ~{Y3} (out), 13 ~{Y2} (out), 14 ~{Y1} (out), 15 ~{Y0} (out), 16 VCC (power)

## SN74LVC138AQPWREP
designator U?
Enhanced Product 3-Line To 8-Line Decoder/Demultiplexer, PW0016A, LARGE T&R; Generic Part Number: SN74LVC138A-EP; Manufacturer: Texas Instruments; PartNumber: SN74LVC138AQPWREP; VCC(Min)(V): 2; VCC(Max)(V): 3.6; ICC @ Nom Voltage(Max)(mA): 0.01; F @ Nom Voltage(Max)(Mhz): 100; Channels(#): 1; Rating: HiRel Enhanced Product; Technology Family: LVC; Voltage(Nom)(V): 2.7,3.3; Schmitt Trigger: No; Output Drive (IOL/IOH)(Max)(mA): 24/-24; tpd @ Nom Voltage(Max)(ns): 7.9,6.7; DatasheetVersion: SCAS734D; PackageReference: PW0016A; Supplier 1: Mouser; Supplier Part Number 1: 595-N74LVC138AQPWREP; Supplier 2: Digi-Key; Supplier Part Number 2: 296-20727-2-ND; Supplier 3: Digi-Key; Supplier Part Number 3: 296-20727-1-ND; Supplier 4: Digi-Key; Supplier Part Number 4: 296-20727-6-ND; Operating Temperature Range(C): -40 to 125,-55 to 125; Type: Standard; Code_JEDEC: MO-153; ComponentLink1Description: Manufacturer URL; ComponentLink1URL: http://www.ti.com/; ComponentLink2Description: Datasheet; ComponentLink2URL: http://www.ti.com/lit/ds/symlink/sn74lvc138a-ep.pdf; ComponentLink3Description: Package Specification; ComponentLink3URL: http://www.ti.com/lit/ml/mpds361/mpds361.pdf
footprint PW0016A_N (SOP, 16-Leads, Body 5.1x4.5mm, Pitch 0.65mm, IPC Medium Density)
footprint PW0016A_M (SOP, 16-Leads, Body 5.1x4.5mm, Pitch 0.65mm, IPC Low Density)
footprint PW0016A_L (SOP, 16-Leads, Body 5.1x4.5mm, Pitch 0.65mm, IPC High Density)
pins: 1 A (in), 2 B (in), 3 C (in), 4 ~{G2A} (in), 5 ~{G2B} (in), 6 G1 (in), 7 ~{Y7} (out), 8 GND (power), 9 ~{Y6} (out), 10 ~{Y5} (out), 11 ~{Y4} (out), 12 ~{Y3} (out), 13 ~{Y2} (out), 14 ~{Y1} (out), 15 ~{Y0} (out), 16 VCC (power)

## SN74LVC138AQPWRQ1
designator U?
Automotive Catalog 3-Line To 8-Line decoder/Demultiplexer, PW0016A, LARGE T&R; Generic Part Number: SN74LVC138A-Q1; Manufacturer: Texas Instruments; PartNumber: SN74LVC138AQPWRQ1; VCC(Min)(V): 2; VCC(Max)(V): 3.6; Output Type: CMOS; ICC @ Nom Voltage(Max)(mA): 0.01; Input Type: TLL/CMOS; Bits(#): 8; F @ Nom Voltage(Max)(Mhz): 100; Channels(#): 1; Technology Family: LVC; Voltage(Nom)(V): 2.7,3.3; Schmitt Trigger: No; Output Drive (IOL/IOH)(Max)(mA): 24/-24; tpd @ Nom Voltage(Max)(ns): 7.9,6.7; DatasheetVersion: SCAS708B; PackageReference: PW0016A; Supplier 1: Mouser; Supplier Part Number 1: 595-SN74LVC138AQPWRQ; Supplier 2: Digi-Key; Supplier Part Number 2: 296-28968-2-ND; Supplier 3: Digi-Key; Supplier Part Number 3: 296-28968-1-ND; Supplier 4: Digi-Key; Supplier Part Number 4: 296-28968-6-ND; Operating Temperature Range(C): -40 to 125; Type: Standard; Rating: Automotive; Code_JEDEC: MO-153; ComponentLink1Description: Manufacturer URL; ComponentLink1URL: http://www.ti.com/; ComponentLink2Description: Datasheet; ComponentLink2URL: http://www.ti.com/lit/ds/symlink/sn74lvc138a-q1.pdf; ComponentLink3Description: Package Specification; ComponentLink3URL: http://www.ti.com/lit/ml/mpds361/mpds361.pdf
footprint PW0016A_N (SOP, 16-Leads, Body 5.1x4.5mm, Pitch 0.65mm, IPC Medium Density)
footprint PW0016A_M (SOP, 16-Leads, Body 5.1x4.5mm, Pitch 0.65mm, IPC Low Density)
footprint PW0016A_L (SOP, 16-Leads, Body 5.1x4.5mm, Pitch 0.65mm, IPC High Density)
pins: 1 A (in), 2 B (in), 3 C (in), 4 ~{G2A} (in), 5 ~{G2B} (in), 6 G1 (in), 7 ~{Y7} (out), 8 GND (power), 9 ~{Y6} (out), 10 ~{Y5} (out), 11 ~{Y4} (out), 12 ~{Y3} (out), 13 ~{Y2} (out), 14 ~{Y1} (out), 15 ~{Y0} (out), 16 VCC (power)

## SN74LVC138ARGYR
designator U?
3-Line To 8-Line decoder/Demultiplexer, RGY0016A, LARGE T&R; Generic Part Number: SN74LVC138A; Manufacturer: Texas Instruments; PartNumber: SN74LVC138ARGYR; VCC(Min)(V): 1.65; VCC(Max)(V): 3.6; Output Type: CMOS; ICC @ Nom Voltage(Max)(mA): 0.01; Input Type: TLL/CMOS; Bits(#): 8; F @ Nom Voltage(Max)(Mhz): 100; Configuration: 3：8; Channels(#): 1; Rating: Catalog; Technology Family: LVC; Voltage(Nom)(V): 1.8,2.5,2.7,3.3; Schmitt Trigger: No; Output Drive (IOL/IOH)(Max)(mA): 24/-24; tpd @ Nom Voltage(Max)(ns): 22,9.9,7.9,6.7; DatasheetVersion: SCAS291V; PackageReference: RGY0016A; Supplier 1: Mouser; Supplier Part Number 1: 595-SN74LVC138ARGYR; Supplier 2: Digi-Key; Supplier Part Number 2: 296-13963-2-ND; Supplier 3: Digi-Key; Supplier Part Number 3: 296-13963-1-ND; Supplier 4: Digi-Key; Supplier Part Number 4: 296-13963-6-ND; Function: Decoder/Demultiplexer; Operating Temperature Range(C): -40 to 85; Type: Standard; Code_JEDEC: MO-241; ComponentLink1Description: Manufacturer URL; ComponentLink1URL: http://www.ti.com/; ComponentLink2Description: Datasheet; ComponentLink2URL: http://www.ti.com/lit/ds/symlink/sn74lvc138a.pdf; ComponentLink3Description: Package Specification; ComponentLink3URL: http://www.ti.com/lit/ml/mpqf115g/mpqf115g.pdf
footprint RGY0016A_V (QFN, 16-Leads, Body 4x3.5mm, Thermal Pad 2.55x2.05mm, TI Recommend)
pins: 1 A (in), 2 B (in), 3 C (in), 4 ~{G2A} (in), 5 ~{G2B} (in), 6 G1 (in), 7 ~{Y7} (out), 8 GND (power), 9 ~{Y6} (out), 10 ~{Y5} (out), 11 ~{Y4} (out), 12 ~{Y3} (out), 13 ~{Y2} (out), 14 ~{Y1} (out), 15 ~{Y0} (out), 16 VCC (power), 17 EP

## SN74LVC138AZQNR
designator U?
3-Line To 8-Line decoder/Demultiplexer, ZQN0020A, LARGE T&R; Generic Part Number: SN74LVC138A; Manufacturer: Texas Instruments; PartNumber: SN74LVC138AZQNR; VCC(Min)(V): 1.65; VCC(Max)(V): 3.6; Output Type: CMOS; ICC @ Nom Voltage(Max)(mA): 0.01; Input Type: TLL/CMOS; Bits(#): 8; F @ Nom Voltage(Max)(Mhz): 100; Configuration: 3：8; Channels(#): 1; Rating: Catalog; Technology Family: LVC; Voltage(Nom)(V): 1.8,2.5,2.7,3.3; Schmitt Trigger: No; Output Drive (IOL/IOH)(Max)(mA): 24/-24; tpd @ Nom Voltage(Max)(ns): 22,9.9,7.9,6.7; DatasheetVersion: SCAS291V; PackageReference: ZQN0020A; Supplier 1: Mouser; Supplier Part Number 1: 595-SN74LVC138AZQNR; Supplier 2: Digi-Key; Supplier Part Number 2: 296-23269-2-ND; Supplier 3: Digi-Key; Supplier Part Number 3: 296-23269-1-ND; Supplier 4: Digi-Key; Supplier Part Number 4: 296-23269-6-ND; Function: Decoder/Demultiplexer; Operating Temperature Range(C): -40 to 85; Type: Standard; Code_JEDEC: MO-285; ComponentLink1Description: Manufacturer URL; ComponentLink1URL: http://www.ti.com/; ComponentLink2Description: Datasheet; ComponentLink2URL: http://www.ti.com/lit/ds/symlink/sn74lvc138a.pdf; ComponentLink3Description: Package Specification; ComponentLink3URL: http://www.ti.com/lit/ml/mpbg297b/mpbg297b.pdf
footprint ZQN0020A (BGA, 20-Balls, Body 4x3mm, Pitch 0.65mm)
part A pins: A1 B (in), A2 A (in), A3 VCC (power), A4 ~{Y0} (out), B1 C (in), B4 ~{Y1} (out), C1 ~{G2B} (in), C2 ~{G2A} (in), C3 ~{Y3} (out), C4 ~{Y2} (out), D1 G1 (in), D4 ~{Y4} (out), E1 GND (power), E2 ~{Y7} (out), E3 ~{Y6} (out), E4 ~{Y5} (out)
part B pins: B2 NC, B3 NC, D2 NC, D3 NC

## SN74LVC139AD
designator U?
Dual 2-Line To 4-Line Decoder/Demultiplexer, D0016A, TUBE; Generic Part Number: SN74LVC139A; Manufacturer: Texas Instruments; PartNumber: SN74LVC139AD; VCC(Min)(V): 1.65; VCC(Max)(V): 3.6; Output Type: CMOS; ICC @ Nom Voltage(Max)(mA): 0.01; Input Type: TLL/CMOS; Bits(#): 4; F @ Nom Voltage(Max)(Mhz): 100; Configuration: 2：4; Channels(#): 2; Rating: Catalog; Technology Family: LVC; Voltage(Nom)(V): 1.8,2.5,2.7,3.3; Schmitt Trigger: No; Output Drive (IOL/IOH)(Max)(mA): 24/-24; tpd @ Nom Voltage(Max)(ns): 20.6,9.3,7.3,6.2; DatasheetVersion: SCAS341O; PackageReference: D0016A; Supplier 1: Mouser; Supplier Part Number 1: 595-SN74LVC139AD; Supplier 2: Digi-Key; Supplier Part Number 2: 296-1698-5-ND; Function: Decoder/Demultiplexer; Operating Temperature Range(C): -40 to 85; Type: Standard; Code_JEDEC: MS-012 variation AC; ComponentLink1Description: Manufacturer URL; ComponentLink1URL: http://www.ti.com/; ComponentLink2Description: Datasheet; ComponentLink2URL: http://www.ti.com/lit/ds/symlink/sn74lvc139a.pdf; ComponentLink3Description: Package Specification; ComponentLink3URL: http://www.ti.com/lit/ml/mpds178g/mpds178g.pdf
footprint D0016A_N (SOIC, 16-Leads, Body 10x4mm, Pitch 1.27mm, IPC Medium Density)
footprint D0016A_M (SOIC, 16-Leads, Body 10x4mm, Pitch 1.27mm, IPC Low Density)
footprint D0016A_L (SOIC, 16-Leads, Body 10x4mm, Pitch 1.27mm, IPC High Density)
part A pins: 1 1~{G} (in), 2 1A (in), 3 1B (in), 4 1Y0 (out), 5 1Y1 (out), 6 1Y2 (out), 7 1Y3 (out)
part B pins: 9 2Y3 (out), 10 2Y2 (out), 11 2Y1 (out), 12 2Y0 (out), 13 2B (in), 14 2A (in), 15 2~{G} (in)
part C pins: 8 GND (power), 16 VCC (power)

## SN74LVC139ADBR
designator U?
Dual 2-Line To 4-Line Decoder/Demultiplexer, DB0016A, LARGE T&R; Generic Part Number: SN74LVC139A; Manufacturer: Texas Instruments; PartNumber: SN74LVC139ADBR; VCC(Min)(V): 1.65; VCC(Max)(V): 3.6; Output Type: CMOS; ICC @ Nom Voltage(Max)(mA): 0.01; Input Type: TLL/CMOS; Bits(#): 4; F @ Nom Voltage(Max)(Mhz): 100; Configuration: 2：4; Channels(#): 2; Rating: Catalog; Technology Family: LVC; Voltage(Nom)(V): 1.8,2.5,2.7,3.3; Schmitt Trigger: No; Output Drive (IOL/IOH)(Max)(mA): 24/-24; tpd @ Nom Voltage(Max)(ns): 20.6,9.3,7.3,6.2; DatasheetVersion: SCAS341O; PackageReference: DB0016A; Supplier 1: Mouser; Supplier Part Number 1: 595-SN74LVC139ADBR; Supplier 2: Digi-Key; Supplier Part Number 2: 296-8461-2-ND; Supplier 3: Digi-Key; Supplier Part Number 3: 296-8461-1-ND; Supplier 4: Digi-Key; Supplier Part Number 4: 296-8461-6-ND; Function: Decoder/Demultiplexer; Operating Temperature Range(C): -40 to 85; Type: Standard; Code_JEDEC: MO-150; ComponentLink1Description: Manufacturer URL; ComponentLink1URL: http://www.ti.com/; ComponentLink2Description: Datasheet; ComponentLink2URL: http://www.ti.com/lit/ds/symlink/sn74lvc139a.pdf; ComponentLink3Description: Package Specification; ComponentLink3URL: http://www.ti.com/lit/ml/mpds507/mpds507.pdf
footprint DB0016A_N (SOP, 16-Leads, Body 5.6x6.5mm, Pitch 0.65mm, IPC Medium Density)
footprint DB0016A_M (SOP, 16-Leads, Body 5.6x6.5mm, Pitch 0.65mm, IPC Low Density)
footprint DB0016A_L (SOP, 16-Leads, Body 5.6x6.5mm, Pitch 0.65mm, IPC High Density)
part A pins: 1 1~{G} (in), 2 1A (in), 3 1B (in), 4 1Y0 (out), 5 1Y1 (out), 6 1Y2 (out), 7 1Y3 (out)
part B pins: 9 2Y3 (out), 10 2Y2 (out), 11 2Y1 (out), 12 2Y0 (out), 13 2B (in), 14 2A (in), 15 2~{G} (in)
part C pins: 8 GND (power), 16 VCC (power)

## SN74LVC139ADGVR
designator U?
Dual 2-Line To 4-Line Decoder/Demultiplexer, DGV0016A, LARGE T&R; Generic Part Number: SN74LVC139A; Manufacturer: Texas Instruments; PartNumber: SN74LVC139ADGVR; VCC(Min)(V): 1.65; VCC(Max)(V): 3.6; Output Type: CMOS; ICC @ Nom Voltage(Max)(mA): 0.01; Input Type: TLL/CMOS; Bits(#): 4; F @ Nom Voltage(Max)(Mhz): 100; Configuration: 2：4; Channels(#): 2; Rating: Catalog; Technology Family: LVC; Voltage(Nom)(V): 1.8,2.5,2.7,3.3; Schmitt Trigger: No; Output Drive (IOL/IOH)(Max)(mA): 24/-24; tpd @ Nom Voltage(Max)(ns): 20.6,9.3,7.3,6.2; DatasheetVersion: SCAS341O; PackageReference: DGV0016A; Supplier 1: Mouser; Supplier Part Number 1: 595-SN74LVC139ADGVR; Supplier 2: Digi-Key; Supplier Part Number 2: SN74LVC139ADGVR-ND; Function: Decoder/Demultiplexer; Operating Temperature Range(C): -40 to 85; Type: Standard; Code_JEDEC: MO-194; ComponentLink1Description: Manufacturer URL; ComponentLink1URL: http://www.ti.com/; ComponentLink2Description: Datasheet; ComponentLink2URL: http://www.ti.com/lit/ds/symlink/sn74lvc139a.pdf; ComponentLink3Description: Package Specification; ComponentLink3URL: http://www.ti.com/lit/ml/mpds006c/mpds006c.pdf
footprint DGV0016A_N (SOP, 16-Leads, Body 4.5x3.7mm, Pitch 0.4mm, IPC Medium Density)
footprint DGV0016A_M (SOP, 16-Leads, Body 4.5x3.7mm, Pitch 0.4mm, IPC Low Density)
footprint DGV0016A_L (SOP, 16-Leads, Body 4.5x3.7mm, Pitch 0.4mm, IPC High Density)
part A pins: 1 1~{G} (in), 2 1A (in), 3 1B (in), 4 1Y0 (out), 5 1Y1 (out), 6 1Y2 (out), 7 1Y3 (out)
part B pins: 9 2Y3 (out), 10 2Y2 (out), 11 2Y1 (out), 12 2Y0 (out), 13 2B (in), 14 2A (in), 15 2~{G} (in)
part C pins: 8 GND (power), 16 VCC (power)

## SN74LVC139ADR
designator U?
Dual 2-Line To 4-Line Decoder/Demultiplexer, D0016A, LARGE T&R; Generic Part Number: SN74LVC139A; Manufacturer: Texas Instruments; PartNumber: SN74LVC139ADR; VCC(Min)(V): 1.65; VCC(Max)(V): 3.6; Output Type: CMOS; ICC @ Nom Voltage(Max)(mA): 0.01; Input Type: TLL/CMOS; Bits(#): 4; F @ Nom Voltage(Max)(Mhz): 100; Configuration: 2：4; Channels(#): 2; Rating: Catalog; Technology Family: LVC; Voltage(Nom)(V): 1.8,2.5,2.7,3.3; Schmitt Trigger: No; Output Drive (IOL/IOH)(Max)(mA): 24/-24; tpd @ Nom Voltage(Max)(ns): 20.6,9.3,7.3,6.2; DatasheetVersion: SCAS341O; PackageReference: D0016A; Supplier 1: Mouser; Supplier Part Number 1: 595-SN74LVC139ADR; Supplier 2: Digi-Key; Supplier Part Number 2: 296-26581-2-ND; Supplier 3: Digi-Key; Supplier Part Number 3: 296-26581-1-ND; Supplier 4: Digi-Key; Supplier Part Number 4: 296-26581-6-ND; Function: Decoder/Demultiplexer; Operating Temperature Range(C): -40 to 85; Type: Standard; Code_JEDEC: MS-012 variation AC; ComponentLink1Description: Manufacturer URL; ComponentLink1URL: http://www.ti.com/; ComponentLink2Description: Datasheet; ComponentLink2URL: http://www.ti.com/lit/ds/symlink/sn74lvc139a.pdf; ComponentLink3Description: Package Specification; ComponentLink3URL: http://www.ti.com/lit/ml/mpds178g/mpds178g.pdf
footprint D0016A_N (SOIC, 16-Leads, Body 10x4mm, Pitch 1.27mm, IPC Medium Density)
footprint D0016A_M (SOIC, 16-Leads, Body 10x4mm, Pitch 1.27mm, IPC Low Density)
footprint D0016A_L (SOIC, 16-Leads, Body 10x4mm, Pitch 1.27mm, IPC High Density)
part A pins: 1 1~{G} (in), 2 1A (in), 3 1B (in), 4 1Y0 (out), 5 1Y1 (out), 6 1Y2 (out), 7 1Y3 (out)
part B pins: 9 2Y3 (out), 10 2Y2 (out), 11 2Y1 (out), 12 2Y0 (out), 13 2B (in), 14 2A (in), 15 2~{G} (in)
part C pins: 8 GND (power), 16 VCC (power)

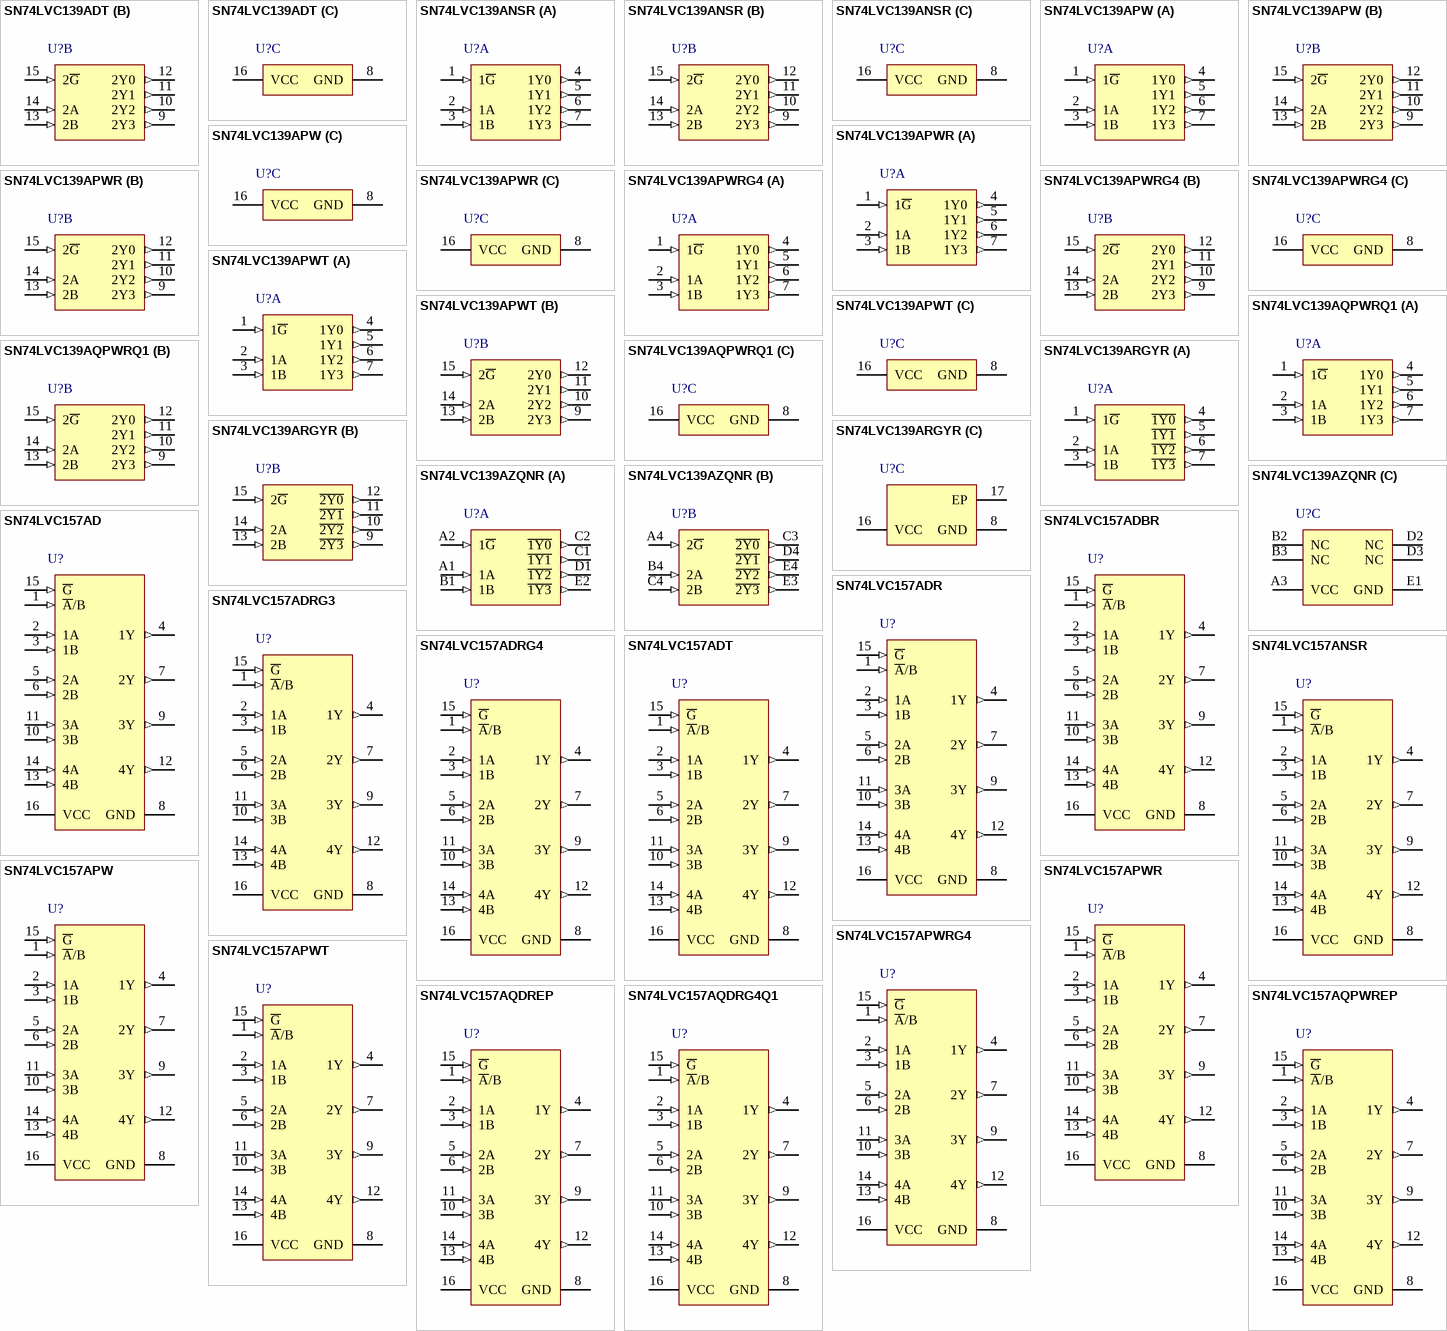
[diagram p79: symbols SN74LVC139ADT to SN74LVC157AQPWREP]

## SN74LVC139ADT
designator U?
Dual 2-Line To 4-Line Decoder/Demultiplexer, D0016A, SMALL T&R; Generic Part Number: SN74LVC139A; Manufacturer: Texas Instruments; PartNumber: SN74LVC139ADT; VCC(Min)(V): 1.65; VCC(Max)(V): 3.6; Output Type: CMOS; ICC @ Nom Voltage(Max)(mA): 0.01; Input Type: TLL/CMOS; Bits(#): 4; F @ Nom Voltage(Max)(Mhz): 100; Configuration: 2：4; Channels(#): 2; Rating: Catalog; Technology Family: LVC; Voltage(Nom)(V): 1.8,2.5,2.7,3.3; Schmitt Trigger: No; Output Drive (IOL/IOH)(Max)(mA): 24/-24; tpd @ Nom Voltage(Max)(ns): 20.6,9.3,7.3,6.2; DatasheetVersion: SCAS341O; PackageReference: D0016A; Supplier 1: Mouser; Supplier Part Number 1: 595-SN74LVC139ADT; Supplier 2: Digi-Key; Supplier Part Number 2: SN74LVC139ADT-ND; Function: Decoder/Demultiplexer; Operating Temperature Range(C): -40 to 85; Type: Standard; Code_JEDEC: MS-012 variation AC; ComponentLink1Description: Manufacturer URL; ComponentLink1URL: http://www.ti.com/; ComponentLink2Description: Datasheet; ComponentLink2URL: http://www.ti.com/lit/ds/symlink/sn74lvc139a.pdf; ComponentLink3Description: Package Specification; ComponentLink3URL: http://www.ti.com/lit/ml/mpds178g/mpds178g.pdf
footprint D0016A_N (SOIC, 16-Leads, Body 10x4mm, Pitch 1.27mm, IPC Medium Density)
footprint D0016A_M (SOIC, 16-Leads, Body 10x4mm, Pitch 1.27mm, IPC Low Density)
footprint D0016A_L (SOIC, 16-Leads, Body 10x4mm, Pitch 1.27mm, IPC High Density)
part A pins: 1 1~{G} (in), 2 1A (in), 3 1B (in), 4 1Y0 (out), 5 1Y1 (out), 6 1Y2 (out), 7 1Y3 (out)
part B pins: 9 2Y3 (out), 10 2Y2 (out), 11 2Y1 (out), 12 2Y0 (out), 13 2B (in), 14 2A (in), 15 2~{G} (in)
part C pins: 8 GND (power), 16 VCC (power)

## SN74LVC139ANSR
designator U?
Dual 2-Line To 4-Line Decoder/Demultiplexer, NS0016A, LARGE T&R; Generic Part Number: SN74LVC139A; Manufacturer: Texas Instruments; PartNumber: SN74LVC139ANSR; VCC(Min)(V): 1.65; VCC(Max)(V): 3.6; Output Type: CMOS; ICC @ Nom Voltage(Max)(mA): 0.01; Input Type: TLL/CMOS; Bits(#): 4; F @ Nom Voltage(Max)(Mhz): 100; Configuration: 2：4; Channels(#): 2; Rating: Catalog; Technology Family: LVC; Voltage(Nom)(V): 1.8,2.5,2.7,3.3; Schmitt Trigger: No; Output Drive (IOL/IOH)(Max)(mA): 24/-24; tpd @ Nom Voltage(Max)(ns): 20.6,9.3,7.3,6.2; DatasheetVersion: SCAS341O; PackageReference: NS0016A; Supplier 1: Mouser; Supplier Part Number 1: 595-SN74LVC139ANSR; Supplier 2: Digi-Key; Supplier Part Number 2: 296-28947-2-ND; Supplier 3: Digi-Key; Supplier Part Number 3: 296-28947-1-ND; Supplier 4: Digi-Key; Supplier Part Number 4: 296-28947-6-ND; Function: Decoder/Demultiplexer; Operating Temperature Range(C): -40 to 85; Type: Standard; ComponentLink1Description: Manufacturer URL; ComponentLink1URL: http://www.ti.com/; ComponentLink2Description: Datasheet; ComponentLink2URL: http://www.ti.com/lit/ds/symlink/sn74lvc139a.pdf; ComponentLink3Description: Package Specification; ComponentLink3URL: http://www.ti.com/lit/ml/msop002a/msop002a.pdf
footprint NS0016A_N (SOIC,16-Leads,Body 10.5x5.6mm,Pitch 1.27mm,IPC Medium Density)
footprint NS0016A_M (SOIC,16-Leads,Body 10.5x5.6mm,Pitch 1.27mm,IPC Low Density)
footprint NS0016A_L (SOIC,16-Leads,Body 10.5x5.6mm,Pitch 1.27mm,IPC High Density)
part A pins: 1 1~{G} (in), 2 1A (in), 3 1B (in), 4 1Y0 (out), 5 1Y1 (out), 6 1Y2 (out), 7 1Y3 (out)
part B pins: 9 2Y3 (out), 10 2Y2 (out), 11 2Y1 (out), 12 2Y0 (out), 13 2B (in), 14 2A (in), 15 2~{G} (in)
part C pins: 8 GND (power), 16 VCC (power)

## SN74LVC139APW
designator U?
Dual 2-Line To 4-Line Decoder/Demultiplexer, PW0016A, TUBE; Generic Part Number: SN74LVC139A; Manufacturer: Texas Instruments; PartNumber: SN74LVC139APW; VCC(Min)(V): 1.65; VCC(Max)(V): 3.6; Output Type: CMOS; ICC @ Nom Voltage(Max)(mA): 0.01; Input Type: TLL/CMOS; Bits(#): 4; F @ Nom Voltage(Max)(Mhz): 100; Configuration: 2：4; Channels(#): 2; Rating: Catalog; Technology Family: LVC; Voltage(Nom)(V): 1.8,2.5,2.7,3.3; Schmitt Trigger: No; Output Drive (IOL/IOH)(Max)(mA): 24/-24; tpd @ Nom Voltage(Max)(ns): 20.6,9.3,7.3,6.2; DatasheetVersion: SCAS341O; PackageReference: PW0016A; Supplier 1: Mouser; Supplier Part Number 1: 595-SN74LVC139APW; Supplier 2: Digi-Key; Supplier Part Number 2: 296-26582-5-ND; Function: Decoder/Demultiplexer; Operating Temperature Range(C): -40 to 85; Type: Standard; Code_JEDEC: MO-153; ComponentLink1Description: Manufacturer URL; ComponentLink1URL: http://www.ti.com/; ComponentLink2Description: Datasheet; ComponentLink2URL: http://www.ti.com/lit/ds/symlink/sn74lvc139a.pdf; ComponentLink3Description: Package Specification; ComponentLink3URL: http://www.ti.com/lit/ml/mpds361/mpds361.pdf
footprint PW0016A_N (SOP, 16-Leads, Body 5.1x4.5mm, Pitch 0.65mm, IPC Medium Density)
footprint PW0016A_M (SOP, 16-Leads, Body 5.1x4.5mm, Pitch 0.65mm, IPC Low Density)
footprint PW0016A_L (SOP, 16-Leads, Body 5.1x4.5mm, Pitch 0.65mm, IPC High Density)
part A pins: 1 1~{G} (in), 2 1A (in), 3 1B (in), 4 1Y0 (out), 5 1Y1 (out), 6 1Y2 (out), 7 1Y3 (out)
part B pins: 9 2Y3 (out), 10 2Y2 (out), 11 2Y1 (out), 12 2Y0 (out), 13 2B (in), 14 2A (in), 15 2~{G} (in)
part C pins: 8 GND (power), 16 VCC (power)

## SN74LVC139APWR
designator U?
Dual 2-Line To 4-Line Decoder/Demultiplexer, PW0016A, LARGE T&R; Generic Part Number: SN74LVC139A; Manufacturer: Texas Instruments; PartNumber: SN74LVC139APWR; VCC(Min)(V): 1.65; VCC(Max)(V): 3.6; Output Type: CMOS; ICC @ Nom Voltage(Max)(mA): 0.01; Input Type: TLL/CMOS; Bits(#): 4; F @ Nom Voltage(Max)(Mhz): 100; Configuration: 2：4; Channels(#): 2; Rating: Catalog; Technology Family: LVC; Voltage(Nom)(V): 1.8,2.5,2.7,3.3; Schmitt Trigger: No; Output Drive (IOL/IOH)(Max)(mA): 24/-24; tpd @ Nom Voltage(Max)(ns): 20.6,9.3,7.3,6.2; DatasheetVersion: SCAS341O; PackageReference: PW0016A; Supplier 1: Mouser; Supplier Part Number 1: 595-SN74LVC139APWR; Supplier 2: Digi-Key; Supplier Part Number 2: 296-8462-2-ND; Supplier 3: Digi-Key; Supplier Part Number 3: 296-8462-1-ND; Supplier 4: Digi-Key; Supplier Part Number 4: 296-8462-6-ND; Function: Decoder/Demultiplexer; Operating Temperature Range(C): -40 to 85; Type: Standard; Code_JEDEC: MO-153; ComponentLink1Description: Manufacturer URL; ComponentLink1URL: http://www.ti.com/; ComponentLink2Description: Datasheet; ComponentLink2URL: http://www.ti.com/lit/ds/symlink/sn74lvc139a.pdf; ComponentLink3Description: Package Specification; ComponentLink3URL: http://www.ti.com/lit/ml/mpds361/mpds361.pdf
footprint PW0016A_N (SOP, 16-Leads, Body 5.1x4.5mm, Pitch 0.65mm, IPC Medium Density)
footprint PW0016A_M (SOP, 16-Leads, Body 5.1x4.5mm, Pitch 0.65mm, IPC Low Density)
footprint PW0016A_L (SOP, 16-Leads, Body 5.1x4.5mm, Pitch 0.65mm, IPC High Density)
part A pins: 1 1~{G} (in), 2 1A (in), 3 1B (in), 4 1Y0 (out), 5 1Y1 (out), 6 1Y2 (out), 7 1Y3 (out)
part B pins: 9 2Y3 (out), 10 2Y2 (out), 11 2Y1 (out), 12 2Y0 (out), 13 2B (in), 14 2A (in), 15 2~{G} (in)
part C pins: 8 GND (power), 16 VCC (power)

## SN74LVC139APWRG4
designator U?
Dual 2-Line To 4-Line Decoder/Demultiplexer, PW0016A, LARGE T&R; Generic Part Number: SN74LVC139A; Manufacturer: Texas Instruments; PartNumber: SN74LVC139APWRG4; VCC(Min)(V): 1.65; VCC(Max)(V): 3.6; Output Type: CMOS; ICC @ Nom Voltage(Max)(mA): 0.01; Input Type: TLL/CMOS; Bits(#): 4; F @ Nom Voltage(Max)(Mhz): 100; Configuration: 2：4; Channels(#): 2; Rating: Catalog; Technology Family: LVC; Voltage(Nom)(V): 1.8,2.5,2.7,3.3; Schmitt Trigger: No; Output Drive (IOL/IOH)(Max)(mA): 24/-24; tpd @ Nom Voltage(Max)(ns): 20.6,9.3,7.3,6.2; DatasheetVersion: SCAS341O; PackageReference: PW0016A; Supplier 1: Mouser; Supplier Part Number 1: 595-SN74LVC139APWRG4; Supplier 2: Digi-Key; Supplier Part Number 2: SN74LVC139APWRG4-ND; Function: Decoder/Demultiplexer; Operating Temperature Range(C): -40 to 85; Type: Standard; Code_JEDEC: MO-153; ComponentLink1Description: Manufacturer URL; ComponentLink1URL: http://www.ti.com/; ComponentLink2Description: Datasheet; ComponentLink2URL: http://www.ti.com/lit/ds/symlink/sn74lvc139a.pdf; ComponentLink3Description: Package Specification; ComponentLink3URL: http://www.ti.com/lit/ml/mpds361/mpds361.pdf
footprint PW0016A_N (SOP, 16-Leads, Body 5.1x4.5mm, Pitch 0.65mm, IPC Medium Density)
footprint PW0016A_M (SOP, 16-Leads, Body 5.1x4.5mm, Pitch 0.65mm, IPC Low Density)
footprint PW0016A_L (SOP, 16-Leads, Body 5.1x4.5mm, Pitch 0.65mm, IPC High Density)
part A pins: 1 1~{G} (in), 2 1A (in), 3 1B (in), 4 1Y0 (out), 5 1Y1 (out), 6 1Y2 (out), 7 1Y3 (out)
part B pins: 9 2Y3 (out), 10 2Y2 (out), 11 2Y1 (out), 12 2Y0 (out), 13 2B (in), 14 2A (in), 15 2~{G} (in)
part C pins: 8 GND (power), 16 VCC (power)

## SN74LVC139APWT
designator U?
Dual 2-Line To 4-Line Decoder/Demultiplexer, PW0016A, SMALL T&R; Generic Part Number: SN74LVC139A; Manufacturer: Texas Instruments; PartNumber: SN74LVC139APWT; VCC(Min)(V): 1.65; VCC(Max)(V): 3.6; Output Type: CMOS; ICC @ Nom Voltage(Max)(mA): 0.01; Input Type: TLL/CMOS; Bits(#): 4; F @ Nom Voltage(Max)(Mhz): 100; Configuration: 2：4; Channels(#): 2; Rating: Catalog; Technology Family: LVC; Voltage(Nom)(V): 1.8,2.5,2.7,3.3; Schmitt Trigger: No; Output Drive (IOL/IOH)(Max)(mA): 24/-24; tpd @ Nom Voltage(Max)(ns): 20.6,9.3,7.3,6.2; DatasheetVersion: SCAS341O; PackageReference: PW0016A; Supplier 1: Mouser; Supplier Part Number 1: 595-SN74LVC139APWT; Supplier 2: Digi-Key; Supplier Part Number 2: SN74LVC139APWT-ND; Function: Decoder/Demultiplexer; Operating Temperature Range(C): -40 to 85; Type: Standard; Code_JEDEC: MO-153; ComponentLink1Description: Manufacturer URL; ComponentLink1URL: http://www.ti.com/; ComponentLink2Description: Datasheet; ComponentLink2URL: http://www.ti.com/lit/ds/symlink/sn74lvc139a.pdf; ComponentLink3Description: Package Specification; ComponentLink3URL: http://www.ti.com/lit/ml/mpds361/mpds361.pdf
footprint PW0016A_N (SOP, 16-Leads, Body 5.1x4.5mm, Pitch 0.65mm, IPC Medium Density)
footprint PW0016A_M (SOP, 16-Leads, Body 5.1x4.5mm, Pitch 0.65mm, IPC Low Density)
footprint PW0016A_L (SOP, 16-Leads, Body 5.1x4.5mm, Pitch 0.65mm, IPC High Density)
part A pins: 1 1~{G} (in), 2 1A (in), 3 1B (in), 4 1Y0 (out), 5 1Y1 (out), 6 1Y2 (out), 7 1Y3 (out)
part B pins: 9 2Y3 (out), 10 2Y2 (out), 11 2Y1 (out), 12 2Y0 (out), 13 2B (in), 14 2A (in), 15 2~{G} (in)
part C pins: 8 GND (power), 16 VCC (power)

## SN74LVC139AQPWRQ1
designator U?
Automotive Catalog Dual 2-Line To 4-Line Decoder/Demultiplexer, PW0016A, LARGE T&R; Generic Part Number: SN74LVC139A-Q1; Manufacturer: Texas Instruments; PartNumber: SN74LVC139AQPWRQ1; VCC(Min)(V): 1.65; VCC(Max)(V): 3.6; Output Type: CMOS; ICC @ Nom Voltage(Max)(mA): 0.01; Input Type: TLL/CMOS; Bits(#): 4; F @ Nom Voltage(Max)(Mhz): 100; Channels(#): 2; Technology Family: LVC; Voltage(Nom)(V): 2.7,3.3; Schmitt Trigger: No; Output Drive (IOL/IOH)(Max)(mA): 24/-24; tpd @ Nom Voltage(Max)(ns): 6.7,6.2; DatasheetVersion: SCAS782B; PackageReference: PW0016A; Supplier 1: Mouser; Supplier Part Number 1: 595-SN74LVC139AQPWRQ; Supplier 2: Digi-Key; Supplier Part Number 2: 296-28755-2-ND; Supplier 3: Digi-Key; Supplier Part Number 3: 296-28755-1-ND; Supplier 4: Digi-Key; Supplier Part Number 4: 296-28755-6-ND; Operating Temperature Range(C): -40 to 125; Type: Standard; Rating: Automotive; Code_JEDEC: MO-153; ComponentLink1Description: Manufacturer URL; ComponentLink1URL: http://www.ti.com/; ComponentLink2Description: Datasheet; ComponentLink2URL: http://www.ti.com/lit/ds/symlink/sn74lvc139a-q1.pdf; ComponentLink3Description: Package Specification; ComponentLink3URL: http://www.ti.com/lit/ml/mpds361/mpds361.pdf
footprint PW0016A_N (SOP, 16-Leads, Body 5.1x4.5mm, Pitch 0.65mm, IPC Medium Density)
footprint PW0016A_M (SOP, 16-Leads, Body 5.1x4.5mm, Pitch 0.65mm, IPC Low Density)
footprint PW0016A_L (SOP, 16-Leads, Body 5.1x4.5mm, Pitch 0.65mm, IPC High Density)
part A pins: 1 1~{G} (in), 2 1A (in), 3 1B (in), 4 1Y0 (out), 5 1Y1 (out), 6 1Y2 (out), 7 1Y3 (out)
part B pins: 9 2Y3 (out), 10 2Y2 (out), 11 2Y1 (out), 12 2Y0 (out), 13 2B (in), 14 2A (in), 15 2~{G} (in)
part C pins: 8 GND (power), 16 VCC (power)